# Altium footprint library RF.PcbLib: 5 footprints
Each footprint in its own frame and in the unit in brackets; x right, y up, seen from the top. Pads: shape width x height; smd on the part's side, far side on the other; paste and mask are expansions set on the pad; w line width, h text height; cw(c..) or ccw(c..) is an arc to the next point about the centre after c.
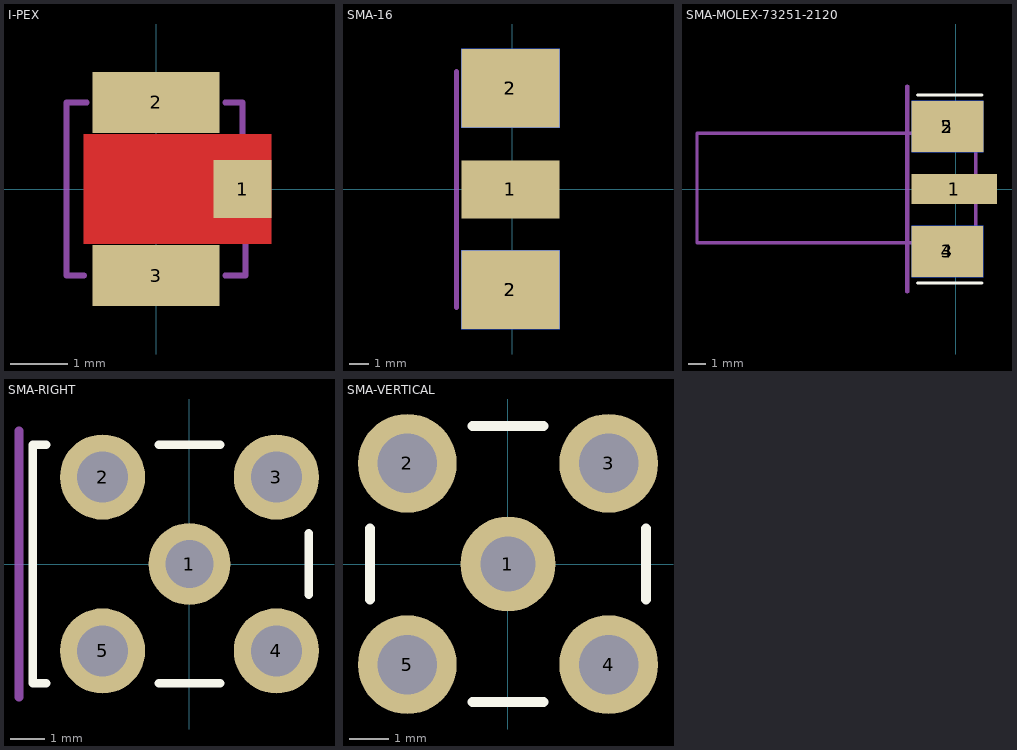
[diagram p0: the footprints below, top view; thin cyan lines are the x and y axes]

## I-PEX [mm] "I-PEX Surface Mount Plug"
height 1.25
pads (3):
  rect 1x1 smd: 1(1.5,0)
  rect 2.2x1.05 smd: 2(0,1.5) 3(0,-1.5)
Top Layer:
  pour cut-out: -1.25,0.95 -1.25,-0.95 2,-0.95 2,0.95
Mechanical 2:
  lines w0.1: -1.25,-1.5 -1.55,-1.5 -1.55,1.5 -1.2,1.5 ; 1.2,-1.5 1.55,-1.5 1.55,-0.6 ; 1.2,1.5 1.5,1.5 1.5,0.6
3D body "User Library-20279-001.step": height 1.25, standoff -0.01, extent -1.55,-1.5 1.55,1.5

## SMA-16 [mm] "Edge female socket SMA"
height 7.92
pads (5):
  rect 5x2.97 smd: 1(-0.1,0)
  rect 5x4 smd: 2(-0.1,-5.1) 2(-0.1,5.15)
  rect 5x4 smd far side: 2(-0.1,-5.1) 2(-0.1,5.15)
Mechanical 2:
  lines w0.254: -2.85,-6 -2.85,6
3D body "User Library-142-0701-801.step": height 4.32, standoff -3.6, extent -12.249,-4.763 2.026,4.763

## SMA-MOLEX-73251-2120 [mm] "RF / Coaxial Connector, PCB Edge Mount, SMA Coaxial, Straight Bulkhead Jack"
height 6.35
pads (5):
  rect 5x1.78 smd: 1(-0.1,0)
  rect 4.2x3 smd: 2(-0.5,3.65)
  rect 4.19x3 smd: 3(-0.5,-3.65)
  rect 4.2x3 smd far side: 4(-0.5,-3.65) 5(-0.5,3.65)
Top Overlay:
  lines w0.2: -2.25,-5.5 1.5,-5.5 ; -2.25,5.5 1.5,5.5
Mechanical 13:
  lines w0.254: -2.85,-6 -2.85,6
Mechanical 15:
  lines w0.2: -15.15,-3.15 -3.25,-3.15 1.15,-3.15 1.15,3.25 -3.25,3.25 -15.15,3.25 -15.15,-3.15
3D body "732512120.stp": height 3.98, standoff -2.37, extent -15.128,-3.15 1.128,3.2

## SMA-RIGHT [mm] "Through Hole, Right Angle"
height 10
pads (5):
  round 2.4 hole 1.4: 1(0,0)
  round 2.5 hole 1.5: 2(-2.55,2.55) 3(2.55,2.55) 4(2.55,-2.55) 5(-2.55,-2.55)
Top Overlay:
  lines w0.254: -4.6,0.9 -4.6,3.5 ; -4.2,-3.5 -4.6,-3.5 -4.6,3.5 ; -4.2,3.5 -4.6,3.5 ; -0.9,-3.5 0.9,-3.5 ; -0.9,3.5 0.9,3.5 ; 3.5,-0.9 3.5,0.9
Mechanical 2:
  lines w0.254: -5,-3.9 -5,3.9
3D body "User Library-901-143-6RFX.step": height 9.86, standoff -3.94, extent -11.6,-3.5 3.5,3.5

## SMA-VERTICAL [mm] "Through Hole, Vertical"
height 10
pads (5):
  round 2.4 hole 1.4: 1(0,0)
  round 2.5 hole 1.5: 2(-2.55,2.55) 3(2.55,2.55) 4(2.55,-2.55) 5(-2.55,-2.55)
Top Overlay:
  lines w0.254: -3.5,-0.9 -3.5,0.9 ; -0.9,-3.5 0.9,-3.5 ; -0.9,3.5 0.9,3.5 ; 3.5,-0.9 3.5,0.9
3D body "User Library-5-1814832-1.step": height 9.72, standoff -3.81, extent -3.175,-3.175 3.175,3.175